# Altium footprint library TLC555CD.PcbLib: 4 footprints
Each footprint in its own frame and in the unit in brackets; x right, y up, seen from the top. Pads: shape width x height; smd on the part's side, far side on the other; paste and mask are expansions set on the pad; w line width, h text height; cw(c..) or ccw(c..) is an arc to the next point about the centre after c.
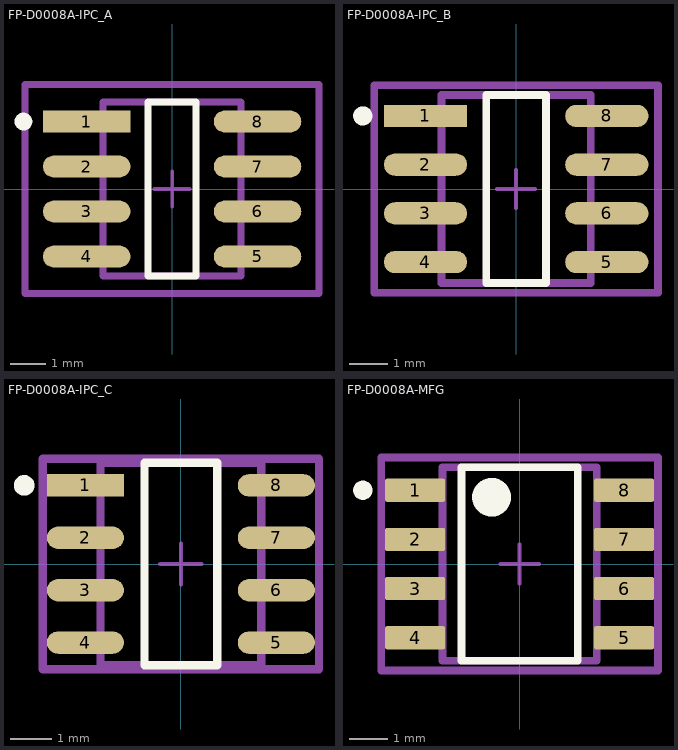
[diagram p0: the footprints below, top view; thin cyan lines are the x and y axes]

## FP-D0008A-IPC_A [mil]
pads (8):
  rect 97.21x24.49 smd paste+0 mask+0: 1(-95.02,75)
  rrect100% 97.21x24.49 smd paste+0 mask+0: 2(-95.02,25) 3(-95.02,-25) 4(-95.02,-75) 5(95.02,-75) 6(95.02,-25) 7(95.02,25) 8(95.02,75)
Top Overlay:
  circle w9.84: c-165.28,75 r4.92
  lines w7.87: -26.73,-96.56 -26.73,96.56 26.73,96.56 26.73,-96.56 -26.73,-96.56
Top Assembly:
  lines w7.87: -163.31,-116.24 -163.31,116.24 163.31,116.24 163.31,-116.24 -163.31,-116.24
  text ".Designator" at 0,7.39 h39.37
Top 3D Body:
  lines w7.87: -76.67,-96.56 -76.67,96.56 76.67,96.56 76.67,-96.56 -76.67,-96.56
Top Courtyard:
  lines w7.87: -163.31,-116.24 -163.31,116.24 163.31,116.24 163.31,-116.24 -163.31,-116.24
Top Component Center:
  lines w3.94: -19.68,0 19.68,0 ; 0,-19.68 0,19.68
3D body "IC_Texas_Instruments_ISO7220ADR_eec.STEP": height 10, standoff 0, extent -163.31,-116.24 163.31,116.24

## FP-D0008A-IPC_B [mil]
pads (8):
  rect 85.4x22.92 smd paste+0 mask+0: 1(-93.06,75)
  rrect100% 85.4x22.92 smd paste+0 mask+0: 2(-93.06,25) 3(-93.06,-25) 4(-93.06,-75) 5(93.06,-75) 6(93.06,-25) 7(93.06,25) 8(93.06,75)
Top Overlay:
  circle w9.84: c-157.41,75 r4.92
  lines w7.87: -30.67,-96.56 30.67,-96.56 30.67,96.56 -30.67,96.56 -30.67,-96.56
Top Assembly:
  lines w7.87: -145.6,-106.4 145.6,-106.4 145.6,106.4 -145.6,106.4 -145.6,-106.4
  text ".Designator" at 0,7.39 h39.37
Top 3D Body:
  lines w7.87: -76.67,-96.56 76.67,-96.56 76.67,96.56 -76.67,96.56 -76.67,-96.56
Top Courtyard:
  lines w7.87: -145.6,-106.4 145.6,-106.4 145.6,106.4 -145.6,106.4 -145.6,-106.4
Top Component Center:
  lines w3.94: -19.68,0 19.68,0 ; 0,-19.68 0,19.68
3D body "IC_Texas_Instruments_ISO7220ADR_eec.STEP": height 10, standoff 0, extent -145.6,-106.4 145.6,106.4

## FP-D0008A-IPC_C [mil]
pads (8):
  rect 73.59x21.34 smd paste+0 mask+0: 1(-91.09,75)
  rrect100% 73.59x21.34 smd paste+0 mask+0: 2(-91.09,25) 3(-91.09,-25) 4(-91.09,-75) 5(91.09,-75) 6(91.09,-25) 7(91.09,25) 8(91.09,75)
Top Overlay:
  circle w9.84: c-149.53,75 r4.92
  lines w7.87: -34.61,-96.56 34.61,-96.56 34.61,96.56 -34.61,96.56 -34.61,-96.56
Top Assembly:
  lines w7.87: -131.82,-100.49 131.82,-100.49 131.82,100.49 -131.82,100.49 -131.82,-100.49
  text ".Designator" at 0,7.39 h39.37
Top 3D Body:
  lines w7.87: -76.67,-96.56 76.67,-96.56 76.67,96.56 -76.67,96.56 -76.67,-96.56
Top Courtyard:
  lines w7.87: -131.82,-100.49 131.82,-100.49 131.82,100.49 -131.82,100.49 -131.82,-100.49
Top Component Center:
  lines w3.94: -19.68,0 19.68,0 ; 0,-19.68 0,19.68
3D body "IC_Texas_Instruments_ISO7220ADR_eec.STEP": height 10, standoff 0, extent -131.82,-100.49 131.82,100.49

## FP-D0008A-MFG [mm]
pads (8):
  rrect17% 1.55x0.6 smd paste+0 mask+0: 1(-2.7,1.905) 2(-2.7,0.635) 3(-2.7,-0.635) 4(-2.7,-1.905) 5(2.7,-1.905) 6(2.7,-0.635) 7(2.7,0.635) 8(2.7,1.905)
Top Overlay:
  circle w0.25: c-4.05,1.905 r0.125
  circle w0.5: c-0.725,1.725 r0.25
  lines w0.2: -1.5,-2.5 1.5,-2.5 1.5,2.5 -1.5,2.5 -1.5,-2.5
Top Assembly:
  lines w0.2: -3.575,-2.75 3.575,-2.75 3.575,2.75 -3.575,2.75 -3.575,-2.75
  text ".Designator" at 0,0.188 h1
Top 3D Body:
  lines w0.2: -1.99,-2.5 1.99,-2.5 1.99,2.5 -1.99,2.5 -1.99,-2.5
Top Courtyard:
  lines w0.2: -3.575,-2.75 3.575,-2.75 3.575,2.75 -3.575,2.75 -3.575,-2.75
Top Component Center:
  lines w0.1: -0.5,0 0.5,0 ; 0,-0.5 0,0.5
3D body "IC_Texas_Instruments_ISO7220ADR_eec.STEP": height 0.25, standoff 0, extent -3.575,-2.75 3.575,2.75